# Altium footprint library con-phoenix-254.PCBLIB: 11 footprints
Each footprint in its own frame and in the unit in brackets; x right, y up, seen from the top. Pads: shape width x height; smd on the part's side, far side on the other; paste and mask are expansions set on the pad; w line width, h text height; cw(c..) or ccw(c..) is an arc to the next point about the centre after c.
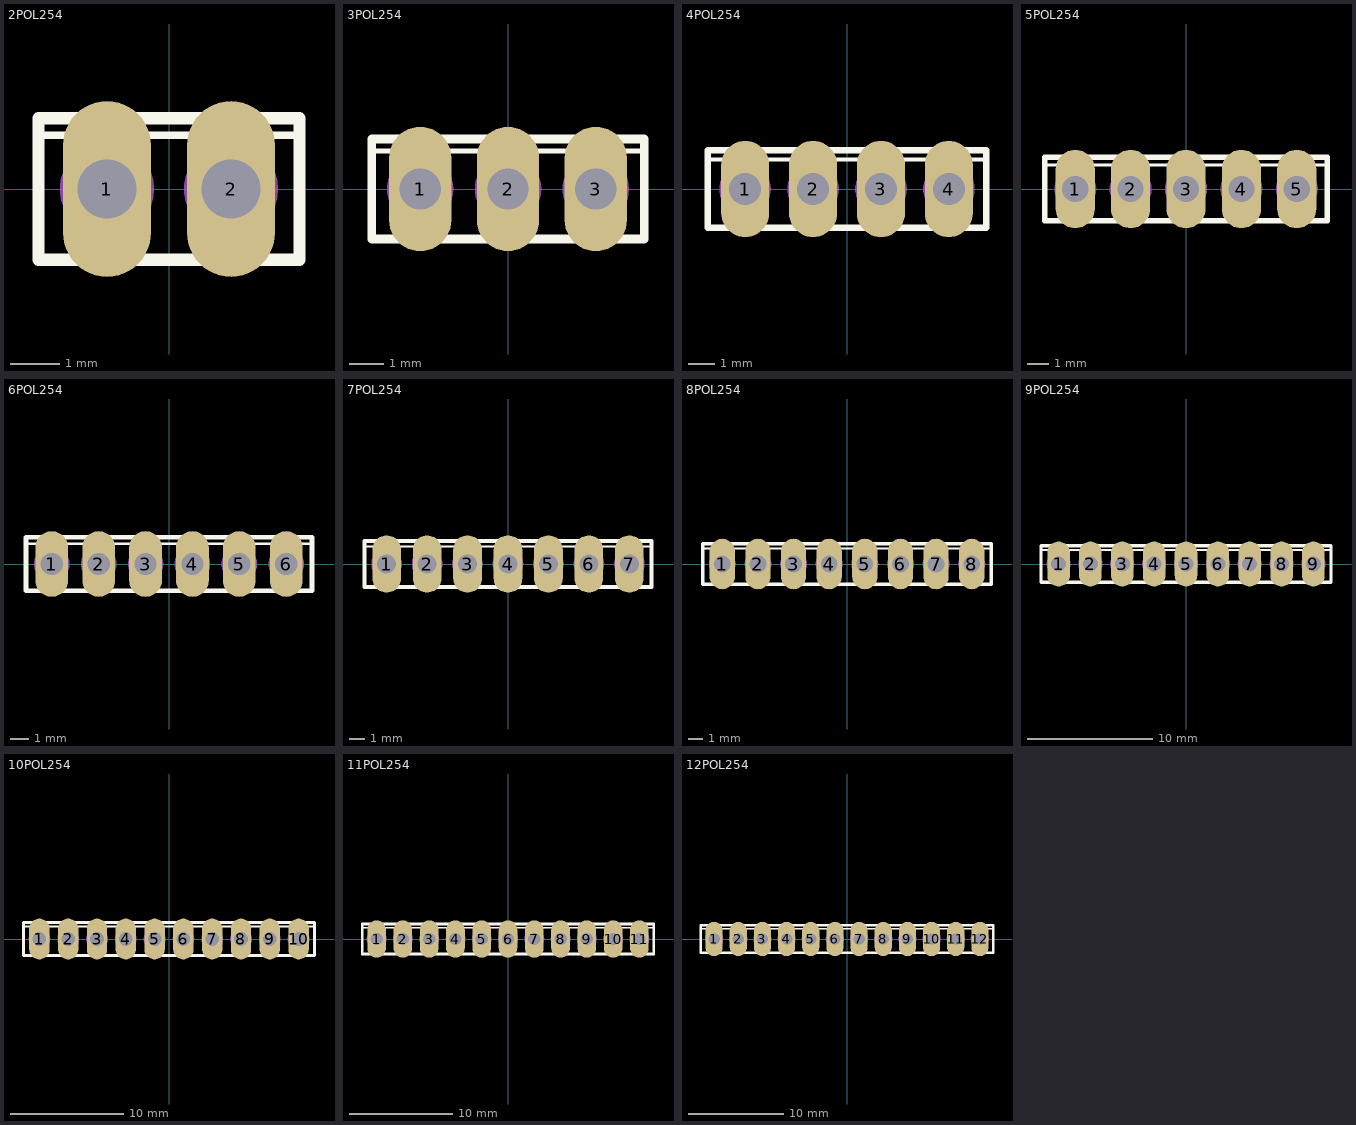
[diagram p0: the footprints below, top view; thin cyan lines are the x and y axes]

## 2POL254 [mil]
pads (2):
  oval 70.86x141.72 hole 47.24: 1(-50,0) 2(50,0)
Top Overlay:
  lines w6: -100.79,43.31 100.79,43.31
  lines w10: -105.12,-57.09 105.12,-57.09 105.12,57.09 -105.12,57.09 -105.12,-57.09
Mechanical 16:
  circle w6: c-50,0 r35
  circle w6: c50,0 r35
  lines w6: -75,-20 -30,25 ; 20,-10 80,5

## 3POL254 [mil]
pads (3):
  oval 70.86x141.72 hole 47.24: 1(-100,0) 2(0,0) 3(100,0)
Top Overlay:
  lines w6: -150.79,43.31 150.79,43.31
  lines w10: -155.12,-57.09 155.12,-57.09 155.12,57.09 -155.12,57.09 -155.12,-57.09
Mechanical 16:
  circle w6: c-100,0 r35
  circle w6: c0,0 r35
  circle w6: c100,0 r35
  lines w6: -125,-20 -80,25 ; -30,-10 30,5 ; 80,25 120,-25

## 4POL254 [mil]
pads (4):
  oval 70.86x141.72 hole 47.24: 1(-150,0) 2(-50,0) 3(50,0) 4(150,0)
Top Overlay:
  lines w6: -200.79,43.31 200.79,43.31
  lines w10: -205.12,-57.09 205.12,-57.09 205.12,57.09 -205.12,57.09 -205.12,-57.09
Mechanical 16:
  circle w6: c-150,0 r35
  circle w6: c-50,0 r35
  circle w6: c50,0 r35
  circle w6: c150,0 r35
  lines w6: -175,-20 -130,25 ; -80,-10 -20,5 ; 30,25 70,-25 ; 120,15 180,-15

## 5POL254 [mil]
pads (5):
  oval 70.86x141.72 hole 47.24: 1(-200,0) 2(-100,0) 3(0,0) 4(100,0) 5(200,0)
Top Overlay:
  lines w6: -250.79,43.31 250.79,43.31
  lines w10: -255.12,-57.09 255.12,-57.09 255.12,57.09 -255.12,57.09 -255.12,-57.09
Mechanical 16:
  circle w6: c-200,0 r35
  circle w6: c-100,0 r35
  circle w6: c0,0 r35
  circle w6: c100,0 r35
  circle w6: c200,0 r35
  lines w6: -225,-20 -180,25 ; -130,-10 -70,5 ; -20,25 20,-25 ; 70,15 130,-15 ; 170,-10 230,5

## 6POL254 [mil]
pads (6):
  oval 70x140 hole 47.24: 1(-250,0) 2(-150,0) 3(-50,0) 4(50,0) 5(150,0) 6(250,0)
Top Overlay:
  lines w6: -300.79,43.31 300.79,43.31
  lines w10: -305.12,-57.09 305.12,-57.09 305.12,57.09 -305.12,57.09 -305.12,-57.09
Mechanical 16:
  circle w6: c-250,0 r35
  circle w6: c-150,0 r35
  circle w6: c-50,0 r35
  circle w6: c50,0 r35
  circle w6: c150,0 r35
  circle w6: c250,0 r35
  lines w6: -275,-20 -230,25 ; -180,-10 -120,5 ; -70,25 -30,-25 ; 20,15 80,-15 ; 130,25 170,-25 ; 220,15 280,-15

## 7POL254 [mil]
pads (7):
  oval 70.86x141.72 hole 47.24: 1(-300,0) 2(-200,0) 3(-100,0) 4(0,0) 5(100,0) 6(200,0) 7(300,0)
Top Overlay:
  lines w6: -350.79,43.31 350.79,43.31
  lines w10: -355.12,-57.09 355.12,-57.09 355.12,57.09 -355.12,57.09 -355.12,-57.09
Mechanical 16:
  circle w6: c-300,0 r35
  circle w6: c-200,0 r35
  circle w6: c-100,0 r35
  circle w6: c0,0 r35
  circle w6: c100,0 r35
  circle w6: c200,0 r35
  circle w6: c300,0 r35
  lines w6: -325,-20 -280,25 ; -230,-10 -170,5 ; -120,25 -80,-25 ; -30,15 30,-15 ; 80,25 120,-25 ; 170,15 230,-15 ; 280,25 320,-25

## 8POL254 [mil]
pads (8):
  oval 70.86x141.72 hole 47.24: 1(-350,0) 2(-250,0) 3(-150,0) 4(-50,0) 5(50,0) 6(150,0) 7(250,0) 8(350,0)
Top Overlay:
  lines w6: -400.79,43.31 400.79,43.31
  lines w10: -405.12,-57.09 405.12,-57.09 405.12,57.09 -405.12,57.09 -405.12,-57.09
Mechanical 16:
  circle w6: c-350,0 r35
  circle w6: c-250,0 r35
  circle w6: c-150,0 r35
  circle w6: c-50,0 r35
  circle w6: c50,0 r35
  circle w6: c150,0 r35
  circle w6: c250,0 r35
  circle w6: c350,0 r35
  lines w6: -375,-20 -330,25 ; -280,-10 -220,5 ; -170,25 -130,-25 ; -80,15 -20,-15 ; 30,25 70,-25 ; 120,15 180,-15 ; 230,25 270,-25 ; 325,-20 370,25

## 9POL254 [mil]
pads (9):
  oval 70.86x141.72 hole 47.24: 1(-400,0) 2(-300,0) 3(-200,0) 4(-100,0) 5(0,0) 6(100,0) 7(200,0) 8(300,0) 9(400,0)
Top Overlay:
  lines w6: -450.79,43.31 450.79,43.31
  lines w10: -455.12,-57.09 455.12,-57.09 455.12,57.09 -455.12,57.09 -455.12,-57.09
Mechanical 16:
  circle w6: c-400,0 r35
  circle w6: c-300,0 r35
  circle w6: c-200,0 r35
  circle w6: c-100,0 r35
  circle w6: c0,0 r35
  circle w6: c100,0 r35
  circle w6: c200,0 r35
  circle w6: c300,0 r35
  circle w6: c400,0 r35
  lines w6: -425,-20 -380,25 ; -330,-10 -270,5 ; -220,25 -180,-25 ; -130,15 -70,-15 ; -20,25 20,-25 ; 70,15 130,-15 ; 180,25 220,-25 ; 275,-20 320,25 ; 375,-20 420,25

## 10POL254 [mil]
pads (10):
  oval 70.86x141.72 hole 47.24: 1(-450,0) 2(-350,0) 3(-250,0) 4(-150,0) 5(-50,0) 6(50,0) 7(150,0) 8(250,0) 9(350,0) 10(450,0)
Top Overlay:
  lines w6: -500.79,43.31 500.79,43.31
  lines w10: -505.12,-57.09 505.12,-57.09 505.12,57.09 -505.12,57.09 -505.12,-57.09
Mechanical 16:
  circle w6: c-450,0 r35
  circle w6: c-350,0 r35
  circle w6: c-250,0 r35
  circle w6: c-150,0 r35
  circle w6: c-50,0 r35
  circle w6: c50,0 r35
  circle w6: c150,0 r35
  circle w6: c250,0 r35
  circle w6: c350,0 r35
  circle w6: c450,0 r35
  lines w6: -475,-20 -430,25 ; -380,-10 -320,5 ; -270,25 -230,-25 ; -180,15 -120,-15 ; -70,25 -30,-25 ; 20,15 80,-15 ; 130,25 170,-25 ; 225,-20 270,25 ; 325,-20 370,25 ; 425,-20 470,25

## 11POL254 [mil]
pads (11):
  oval 70.86x141.72 hole 47.24: 1(-500,0) 2(-400,0) 3(-300,0) 4(-200,0) 5(-100,0) 6(0,0) 7(100,0) 8(200,0) 9(300,0) 10(400,0) 11(500,0)
Top Overlay:
  lines w6: -550.79,43.31 550.79,43.31
  lines w10: -555.12,-57.09 555.12,-57.09 555.12,57.09 -555.12,57.09 -555.12,-57.09
Mechanical 16:
  circle w6: c-500,0 r35
  circle w6: c-400,0 r35
  circle w6: c-300,0 r35
  circle w6: c-200,0 r35
  circle w6: c-100,0 r35
  circle w6: c0,0 r35
  circle w6: c100,0 r35
  circle w6: c200,0 r35
  circle w6: c300,0 r35
  circle w6: c400,0 r35
  circle w6: c500,0 r35
  lines w6: -525,-20 -480,25 ; -430,-10 -370,5 ; -320,25 -280,-25 ; -230,15 -170,-15 ; -120,25 -80,-25 ; -30,15 30,-15 ; 80,25 120,-25 ; 175,-20 220,25 ; 275,-20 320,25 ; 375,-20 420,25 ; 475,-20 520,25

## 12POL254 [mil]
pads (12):
  oval 70.86x141.72 hole 47.24: 1(-550,0) 2(-450,0) 3(-350,0) 4(-250,0) 5(-150,0) 6(-50,0) 7(50,0) 8(150,0) 9(250,0) 10(350,0) 11(450,0) 12(550,0)
Top Overlay:
  lines w6: -600.79,43.31 600.79,43.31
  lines w10: -605.12,-57.09 605.12,-57.09 605.12,57.09 -605.12,57.09 -605.12,-57.09
Mechanical 16:
  circle w6: c-550,0 r35
  circle w6: c-450,0 r35
  circle w6: c-350,0 r35
  circle w6: c-250,0 r35
  circle w6: c-150,0 r35
  circle w6: c-50,0 r35
  circle w6: c50,0 r35
  circle w6: c150,0 r35
  circle w6: c250,0 r35
  circle w6: c350,0 r35
  circle w6: c450,0 r35
  circle w6: c550,0 r35
  lines w6: -575,-20 -530,25 ; -480,-10 -420,5 ; -370,25 -330,-25 ; -280,15 -220,-15 ; -170,25 -130,-25 ; -80,15 -20,-15 ; 30,25 70,-25 ; 125,-20 170,25 ; 225,-20 270,25 ; 325,-20 370,25 ; 425,-20 470,25 ; 525,-20 570,25